# EAGLE library part MICRO-SDCARD (library SparkFun-Minimal-Shields)
MicroSD footprint- NOT a socket for a MicroSD card!
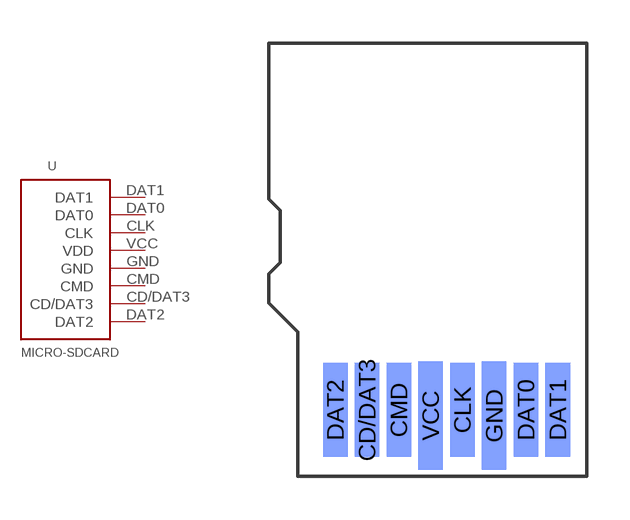
[diagram p4: symbol with the pads of MICRO-SDCARD; footprint MICRO-SDCARD]

Designator prefix -

## MICRO-SDCARD  [MICRO-SDCARD]
CD/DAT3  CD/DAT3
CLK  CLK
CMD  CMD
DAT0  DAT0
DAT1  DAT1
DAT2  DAT2
GND  GND
VCC  VDD

## Footprint MICRO-SDCARD (pad centres in mm)
smd 0.85 x 3.25 bottom: CD/DAT3 2.56,2.3; CLK 5.86,2.3; CMD 3.66,2.3; DAT0 8.06,2.3; DAT1 9.16,2.3; DAT2 1.46,2.3
smd 0.85 x 3.75 bottom: GND 6.96,2.1; VCC 4.76,2.1